# Altium schematic symbol library passive_generics.SchLib: 6 symbols
Pins are listed as number, name and electrical type; pins without a type are passive.

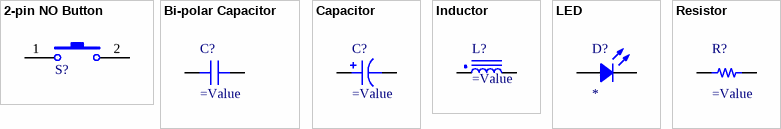
[diagram p0: symbols 2-pin NO Button to Resistor]

## 2-pin NO Button
designator S?
pins: 1 COM, 2 NO

## Bi-polar Capacitor
designator C?
pins: 1, 2

## Capacitor
designator C?
pins: 1, 2
1 alternate drawing of the same symbol

## Inductor
designator L?
pins: 1, 2

## LED
designator D?
pins: 1 A, 2 K

## Resistor
designator R?
pins: 1, 2